# Altium schematic symbol library SCH - PASSIVES - CAPACITOR - C4AQQBW5400A3NJ.SCHLIB: 1 symbol
Pins are listed as number, name and electrical type; pins without a type are passive.

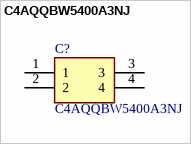
[diagram p0: symbol C4AQQBW5400A3NJ]

## C4AQQBW5400A3NJ
designator C?
Capacitor; Manufacturer: Kemet; Value: 1100 V; Datasheet Link: https://www.mouser.com/datasheet/2/212/C4AQQBW5400A3NJ-1286344.pdf; Height: 50.3mm; Manufacturer Part Number: C4AQQBW5400A3NJ; Supplier Part Number 1: 80-C4AQQBW5400A3NJ; Supplier Part Number 2: 1744412P; Mounting Technology: THT; Supplier 1: Mouser; Supplier 2: RS Components; Voltage: 1100 V
footprint C4AQQBW5400A3NJ
pins: 1, 2, 3, 4